# EAGLE library part 615006138521 (library Wurth-USB)
WR-MJ Vertical Plastic 6P6C Modular Jack With Ears, 8 pins=>Code : Con_I-O_MJ-V_Plastic_615006138521 <http://katalog.we-online.de/media/images/eican/Con_I-O_MJ-V_Plastic_615006138521_pf2.jpg> Details see: http://katalog.we-online.de/en/em/MJ_VERTICAL_PLASTIC_6P6C_W_EARS Created 2014-07-10, Karrer Zheng 2014 (C) Würth Elektronik
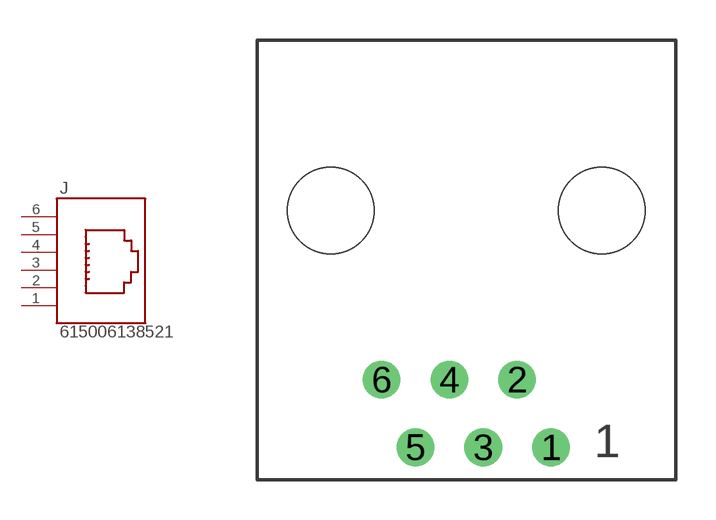
[diagram p97: symbol with the pads of 615006138521; footprint 615006138521]

Designator prefix J

## 615006138521  [615006138521]
1  1  pas
2  2  pas
3  3  pas
4  4  pas
5  5  pas
6  6  pas

## Footprint 615006138521 (pad centres in mm)
WR-MJ Vertical Plastic 6P6C Modular Jack With Ears, 8 pins
drill 0.9: 1 3.175,-1.27; 2 1.905,1.27; 3 0.635,-1.27; 4 -0.635,1.27; 5 -1.905,-1.27; 6 -3.175,1.27
hole 3.25 at -5.08,7.62
hole 3.25 at 5.08,7.62